# Altium schematic symbol library Resistors.SchLib: 234 symbols (part 2 of 2)
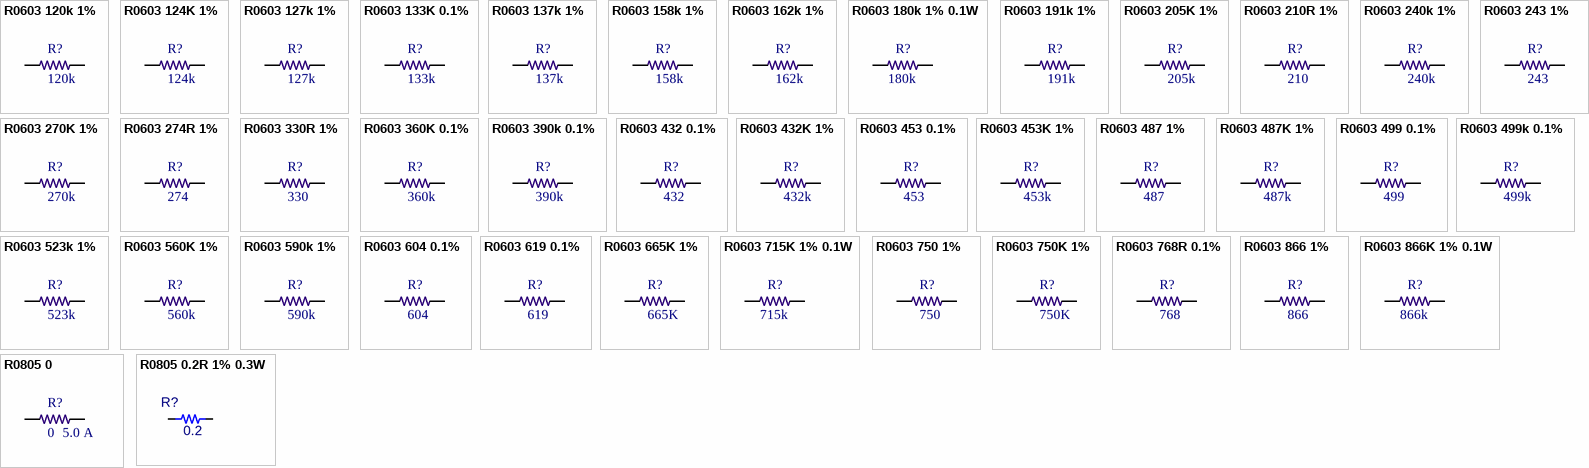
[diagram p6: symbols R0603 120k 1% to R0805 0.2R 1% 0.3W]

## R0603 162k 1%
designator R?  value 162k  (hidden comment: *)
RES SMD 162K OHM 1% 1/10W 0603; Temperature Coefficient: ±100ppm/°C; Supplier 1: Digi-Key; Tolerance: ±1%; Features: Automotive AEC-Q200; Operating Temperature: -55°C ~ 155°C; Supplier Part Number 1: RMCF0603FG162KCT-ND
footprint R0603-IPC
footprint R0603-HIGH-DENSITY (Chip Resistor, 2-Leads, Body 1.60x0.80mm, IPC High Density)
pins: 1, 2

## R0603 180k 1% 0.1W
designator R?  value 180k  (hidden comment: *)
180 kOhms ±1% 0.1W, 1/10W Chip Resistor 0603 (1608 Metric) Automotive AEC-Q200, Moisture Resistant Thick Film; Supplier 1: Digi-Key; Supplier Part Number 1: A129715CT-ND
footprint R0603-HIGH-DENSITY (Chip Resistor, 2-Leads, Body 1.60x0.80mm, IPC High Density)
pins: 1, 2

## R0603 191k 1%
designator R?  value 191k  (hidden comment: *)
RES 191K OHM 1% 1/10W 0603; Supplier 1: Digi-Key; Supplier Part Number 1: RMCF0603FT191KCT-ND
footprint R0603-IPC
footprint R0603-HIGH-DENSITY (Chip Resistor, 2-Leads, Body 1.60x0.80mm, IPC High Density)
pins: 1, 2

## R0603 205K 1%
designator R?  value 205k  (hidden comment: *)
RES SMD 205K OHM 1% 1/10W 0603; Supplier 1: Digi-Key; Supplier Part Number 1: RMCF0603FT205KCT-ND
footprint R0603-IPC
footprint R0603-HIGH-DENSITY (Chip Resistor, 2-Leads, Body 1.60x0.80mm, IPC High Density)
pins: 1, 2

## R0603 210R 1%
designator R?  value 210  (hidden comment: *)
RES 210 OHM 1% 1/10W 0603; Supplier 1: Digi-Key; Supplier Part Number 1: RMCF0603FT210RCT-ND
footprint R0603-IPC
footprint R0603-HIGH-DENSITY (Chip Resistor, 2-Leads, Body 1.60x0.80mm, IPC High Density)
pins: 1, 2

## R0603 240k 1%
designator R?  value 240k  (hidden comment: *)
RES 240K OHM 1% 1/10W 0603; Supplier 1: Digi-Key; Supplier Part Number 1: RMCF0603FT240KCT-ND
footprint R0603-IPC
footprint R0603-HIGH-DENSITY (Chip Resistor, 2-Leads, Body 1.60x0.80mm, IPC High Density)
pins: 1, 2

## R0603 243 1%
designator R?  value 243  (hidden comment: *)
RES SMD 243 OHM 1% 1/10W 0603; Temperature Coefficient: ±100ppm/°C; Tolerance: ±1%; Features: Automotive AEC-Q200; Operating Temperature: -55°C ~ 155°C; Supplier 1: Digi-Key; Supplier Part Number 1: RMCF0603FT243RCT-ND
footprint R0603-IPC
footprint R0603-HIGH-DENSITY (Chip Resistor, 2-Leads, Body 1.60x0.80mm, IPC High Density)
pins: 1, 2

## R0603 270K 1%
designator R?  value 270k  (hidden comment: *)
RES SMD 270K OHM 1% 1/10W 0603; Supplier 1: Digi-Key; Supplier 2: Mouser; Supplier 3: LCSC; Supplier Part Number 1: P270KHCT-ND; Supplier Part Number 2: 667-ERJ-3EKF2703V; Supplier Part Number 3: C403123
footprint R0603-IPC
footprint R0603-HIGH-DENSITY (Chip Resistor, 2-Leads, Body 1.60x0.80mm, IPC High Density)
pins: 1, 2

## R0603 274R 1%
designator R?, comment value 274  (hidden comment: 0603 274R 1%)
RES SMD 274 OHM 1% 1/10W 0603; Supplier 1: Digi-Key; Supplier 2: Mouser; Supplier Part Number 1: 311-274HRCT-ND; Supplier Part Number 2: 603-RC0603FR-07274RL
footprint R0603-IPC
footprint R0603-HIGH-DENSITY (Chip Resistor, 2-Leads, Body 1.60x0.80mm, IPC High Density)
pins: 1, 2

## R0603 330R 1%
designator R?  value 330  (hidden comment: *)
RES 330 OHM 1% 1/10W 0603; Supplier 1: Digi-Key; Supplier Part Number 1: RMCF0603FT330RCT-ND
footprint R0603-IPC
footprint R0603-HIGH-DENSITY (Chip Resistor, 2-Leads, Body 1.60x0.80mm, IPC High Density)
pins: 1, 2

## R0603 360K 0.1%
designator R?  value 360k  (hidden comment: *)
RES SMD 360K OHM 0.1% 1/10W 0603; Supplier 1: Digi-Key; Supplier Part Number 1: YAG4708CT-ND
footprint R0603-IPC
footprint R0603-HIGH-DENSITY (Chip Resistor, 2-Leads, Body 1.60x0.80mm, IPC High Density)
pins: 1, 2

## R0603 390k 0.1%
designator R?  value 390k  (hidden comment: *)
RES SMD 390K OHM 0.1% 1/10W 0603; Supplier 1: Digi-Key; Supplier Part Number 1: YAG4542CT-ND
footprint R0603-IPC
footprint R0603-HIGH-DENSITY (Chip Resistor, 2-Leads, Body 1.60x0.80mm, IPC High Density)
pins: 1, 2

## R0603 432 0.1%
designator R?  value 432  (hidden comment: *)
Chip Resistor, 0603, ??k ohms, 0.1W; Supplier 1: Digi-Key; Supplier Part Number 1: P432DBCT-ND
footprint R0603-IPC
footprint R0603-HIGH-DENSITY (Chip Resistor, 2-Leads, Body 1.60x0.80mm, IPC High Density)
pins: 1, 2

## R0603 432K 1%
designator R?  value 432k  (hidden comment: *)
RES SMD 432K OHM 1% 1/10W 0603; Supplier 1: Digi-Key; Supplier Part Number 1: RMCF0603FT432KCT-ND
footprint R0603-IPC
footprint R0603-HIGH-DENSITY (Chip Resistor, 2-Leads, Body 1.60x0.80mm, IPC High Density)
pins: 1, 2

## R0603 453 0.1%
designator R?  value 453  (hidden comment: *)
RES SMD 453 OHM 0.1% 1/10W 0603; Supplier 1: Digi-Key; Supplier Part Number 1: P453DBCT-ND
footprint R0603-IPC
footprint R0603-HIGH-DENSITY (Chip Resistor, 2-Leads, Body 1.60x0.80mm, IPC High Density)
pins: 1, 2

## R0603 453K 1%
designator R?  value 453k  (hidden comment: *)
RES SMD 453K OHM 1% 1/10W 0603; Supplier 1: Digi-Key; Supplier Part Number 1: RMCF0603FT453KCT-ND
footprint R0603-IPC
footprint R0603-HIGH-DENSITY (Chip Resistor, 2-Leads, Body 1.60x0.80mm, IPC High Density)
pins: 1, 2

## R0603 487 1%
designator R?  value 487  (hidden comment: *)
RES SMD 487 OHM 1% 1/10W 0603; Supplier 1: Digi-Key; Supplier Part Number 1: P487HCT-ND
footprint R0603-IPC
footprint R0603-HIGH-DENSITY (Chip Resistor, 2-Leads, Body 1.60x0.80mm, IPC High Density)
pins: 1, 2

## R0603 487K 1%
designator R?  value 487k  (hidden comment: *)
RES SMD 487K OHM 1% 1/10W 0603; Supplier 1: Digi-Key; Supplier Part Number 1: RMCF0603FT487KCT-ND
footprint R0603-IPC
footprint R0603-HIGH-DENSITY (Chip Resistor, 2-Leads, Body 1.60x0.80mm, IPC High Density)
pins: 1, 2

## R0603 499 0.1%
designator R?  value 499  (hidden comment: *)
RES SMD 499 OHM 0.1% 1/10W 0603; Supplier 1: Digi-Key; Supplier Part Number 1: P499DBCT-ND
footprint R0603-IPC
footprint R0603-HIGH-DENSITY (Chip Resistor, 2-Leads, Body 1.60x0.80mm, IPC High Density)
pins: 1, 2

## R0603 499k 0.1%
designator R?  value 499k  (hidden comment: *)
RES 499K OHM 0.1% 1/10W 0603; Supplier 1: Digi-Key; Supplier Part Number 1: A124756CT-ND
footprint R0603-IPC
footprint R0603-HIGH-DENSITY (Chip Resistor, 2-Leads, Body 1.60x0.80mm, IPC High Density)
pins: 1, 2

## R0603 523k 1%
designator R?  value 523k  (hidden comment: *)
RES 523K OHM 1% 1/10W 0603; Supplier 1: Digi-Key; Supplier Part Number 1: RMCF0603FT523KCT-ND
footprint R0603-IPC
footprint R0603-HIGH-DENSITY (Chip Resistor, 2-Leads, Body 1.60x0.80mm, IPC High Density)
pins: 1, 2

## R0603 560K 1%
designator R?  value 560k  (hidden comment: *)
RES 560K OHM 1% 1/10W 0603; Supplier 1: Digi-Key; Supplier Part Number 1: RMCF0603FT560KCT-ND
footprint R0603-IPC
footprint R0603-HIGH-DENSITY (Chip Resistor, 2-Leads, Body 1.60x0.80mm, IPC High Density)
pins: 1, 2

## R0603 590k 1%
designator R?  value 590k  (hidden comment: *)
RES SMD 590K OHM 1% 1/10W 0603; Supplier 1: Digi-Key; Supplier Part Number 1: RMCF0603FT590KCT-ND
footprint R0603-IPC
footprint R0603-HIGH-DENSITY (Chip Resistor, 2-Leads, Body 1.60x0.80mm, IPC High Density)
pins: 1, 2

## R0603 604 0.1%
designator R?  value 604  (hidden comment: *)
RES SMD 604 OHM 0.1% 1/10W 0603; Supplier 1: Digi-Key; Supplier Part Number 1: P604DBCT-ND
footprint R0603-IPC
footprint R0603-HIGH-DENSITY (Chip Resistor, 2-Leads, Body 1.60x0.80mm, IPC High Density)
pins: 1, 2

## R0603 619 0.1%
designator R?  value 619  (hidden comment: *)
RES SMD 619 OHM 0.1% 1/10W 0603; Supplier 1: Digi-Key; Supplier Part Number 1: P619DBCT-ND
footprint R0603-IPC
footprint R0603-HIGH-DENSITY (Chip Resistor, 2-Leads, Body 1.60x0.80mm, IPC High Density)
pins: 1, 2

## R0603 665K 1%
designator R?  value 665K  (hidden comment: *)
RES SMD 665K OHM 1% 1/10W 0603; Temperature Coefficient: ±100ppm/°C; Tolerance: ±1%; Features: Automotive AEC-Q200; Operating Temperature: -55°C ~ 155°C; Supplier 1: Digi-Key; Supplier Part Number 1: RMCF0603FT665KCT-ND
footprint R0603-IPC
footprint R0603-HIGH-DENSITY (Chip Resistor, 2-Leads, Body 1.60x0.80mm, IPC High Density)
pins: 1, 2

## R0603 715K 1% 0.1W
designator R?  value 715k  (hidden comment: *)
715 kOhms ±1% 0.1W, 1/10W Chip Resistor 0603 (1608 Metric) Automotive AEC-Q200, Moisture Resistant Thick Film; Supplier 1: Digi-Key; Supplier Part Number 1: 2019-RK73H1JTTD7153FCT-ND
footprint R0603-HIGH-DENSITY (Chip Resistor, 2-Leads, Body 1.60x0.80mm, IPC High Density)
pins: 1, 2

## R0603 750 1%
designator R?  value 750  (hidden comment: *)
Chip Resistor, 0603, 750 ohms, 0.1W; Supplier 1: Digi-Key; Supplier Part Number 1: 311-750HRCT-ND
footprint R0603-IPC
footprint R0603-HIGH-DENSITY (Chip Resistor, 2-Leads, Body 1.60x0.80mm, IPC High Density)
footprint R0603-IPC-750R (750R 0603 Resistor)
pins: 1, 2

## R0603 750K 1%
designator R?, comment value 750K  (hidden comment: RC0603FR-07750KL)
RES SMD 750K OHM 1% 1/10W 0603; Temperature Coefficient: ±100ppm/°C; Tolerance: ±1%; Operating Temperature: -55°C ~ 155°C; Supplier 1: Digi-Key; Supplier 2: Mouser; Supplier 3: LCSC; Supplier Part Number 1: 311-750KHRCT-ND; Supplier Part Number 2: 603-RC0603FR-07750KL; Supplier Part Number 3: C137684
footprint R0603-IPC
footprint R0603-HIGH-DENSITY (Chip Resistor, 2-Leads, Body 1.60x0.80mm, IPC High Density)
pins: 1, 2

## R0603 768R 0.1%
designator R?  value 768  (hidden comment: *)
Chip Resistor, 0603, 768R ohms, 0.1W; Supplier 1: Digi-Key; Supplier Part Number 1: P768DBCT-ND
footprint R0603-IPC
footprint R0603-HIGH-DENSITY (Chip Resistor, 2-Leads, Body 1.60x0.80mm, IPC High Density)
pins: 1, 2

## R0603 866 1%
designator R?  value 866  (hidden comment: *)
Chip Resistor, 0603, 866 ohms, 0.1W; Supplier 1: Digi-Key; Supplier Part Number 1: 311-866HRCT-ND
footprint R0603-IPC
footprint R0603-HIGH-DENSITY (Chip Resistor, 2-Leads, Body 1.60x0.80mm, IPC High Density)
pins: 1, 2

## R0603 866K 1% 0.1W
designator R?  value 866k  (hidden comment: *)
866 kOhms ±1% 0.1W, 1/10W Chip Resistor 0603 (1608 Metric) Moisture Resistant Thick Film; Supplier 1: Digi-Key; Supplier Part Number 1: 311-866KHRCT-ND
footprint R0603-HIGH-DENSITY (Chip Resistor, 2-Leads, Body 1.60x0.80mm, IPC High Density)
pins: 1, 2

## R0805 0
designator R?  value 0  Maximum Current: 5.0 A  (hidden comment: *)
RES SMD 0 OHM JUMPER 1/8W 0805; Rated Current: 2.0 A; Supplier 1: Digi-Key; Supplier Part Number 1: 311-0.0ARCT-ND
footprint R0805-IPC
pins: 1, 2

## R0805 0.2R 1% 0.3W
designator R?, comment value 0.2  (hidden comment: RL1220S-R20-F)
Chip Resistor, 0805, ??k ohms, 0.1W; Supplier 1: Digikey; Supplier 2: Mouser; Supplier Part Number 1: RL12S.20FCT-ND; Supplier Part Number 2: 754-RL1220S-R20-F
footprint R0805-IPC
footprint R0805-High-Density (Chip Resistor, 2-Leads, Body 2.00x1.20mm, IPC High Density)
pins: 1, 2

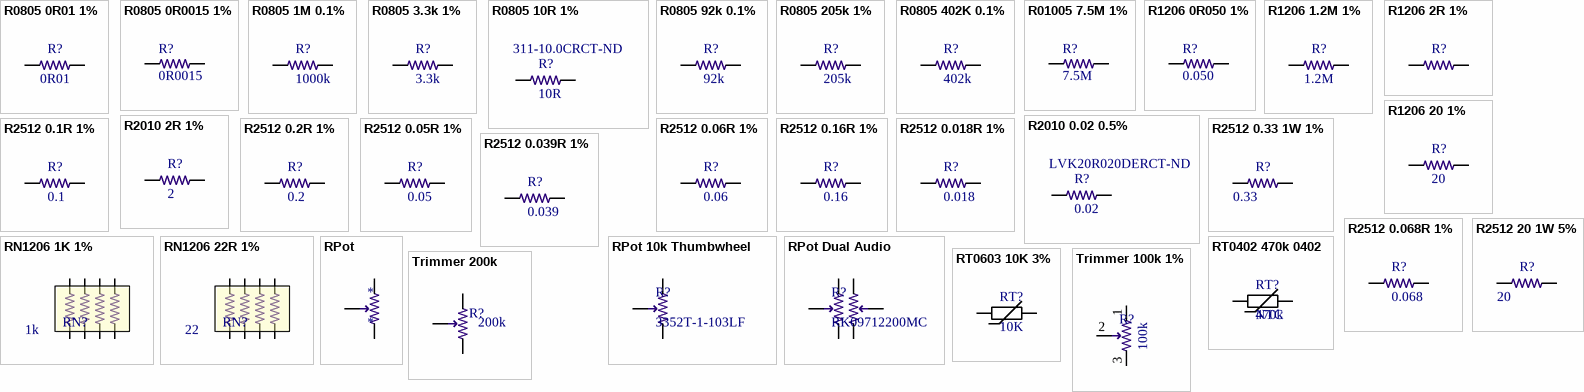
[diagram p5: symbols R0805 0R01 1% to Trimmer 200k]

## R0805 0R01 1%
designator R?  value 0R01  (hidden comment: *)
Chip Resistor, 0805, 0.01 ohms, 0.5 watt, 75 ppm/C, AEC-Q200, -65~170C; Supplier 1: Digi-Key; Supplier Part Number 1: WSLPB-.01CT-ND
footprint R0805-IPC
footprint R0805-High-Density (Chip Resistor, 2-Leads, Body 2.00x1.20mm, IPC High Density)
pins: 1, 2

## R0805 0R0015 1%
designator R?, comment value 0R0015  (hidden comment: CSSH0805FT1L50)
RES SHUNT, 0805, 0.0015 OHM, 1%,; Supplier 1: Digi-Key; Supplier Part Number 1: 738-CSSH0805FT1L50CT-ND
footprint R0805-IPC
footprint R0805-High-Density (Chip Resistor, 2-Leads, Body 2.00x1.20mm, IPC High Density)
pins: 1, 2

## R0805 1M 0.1%
designator R?  value 1000k  (hidden comment: *)
Chip Resistor, 0805, 1M ohms, 0.125W; Supplier 1: Digi-Key; Supplier Part Number 1: P1MDACT-ND
footprint R0805-IPC
footprint R0805-High-Density (Chip Resistor, 2-Leads, Body 2.00x1.20mm, IPC High Density)
pins: 1, 2

## R0805 3.3k 1%
designator R?  value 3.3k  (hidden comment: *)
Chip Resistor, 0805, 3.3k ohms, 0.125W; Supplier 1: Digi-Key; Supplier Part Number 1: 311-3.30KCRCT-ND
footprint R0805-IPC
pins: 1, 2

## R0805 10R 1%
designator R?  value 10R  Supplier Part Number 1: 311-10.0CRCT-ND  (hidden comment: *)
Chip Resistor, 0805, 10R ohms, 0.125W; Supplier 1: Digi-Key
footprint R0805-IPC
pins: 1, 2

## R0805 92k 0.1%
designator R?  value 92k  (hidden comment: *)
Chip Resistor, 0805, 92k ohms, 0.125W; Manufacturer: RT0805BRD0792KL; Supplier 1: Mouser; Supplier Part Number: 603-RT0805BRD0792KL
footprint R0805-IPC
footprint R0805-High-Density (Chip Resistor, 2-Leads, Body 2.00x1.20mm, IPC High Density)
pins: 1, 2

## R0805 205k 1%
designator R?  value 205k  (hidden comment: *)
Chip Resistor, 0805, 205k ohms, 0.125W; Supplier 1: Digi-Key; Supplier Part Number 1: P205KCCT-ND
footprint R0805-IPC
footprint R0805-High-Density (Chip Resistor, 2-Leads, Body 2.00x1.20mm, IPC High Density)
pins: 1, 2

## R0805 402K 0.1%
designator R?  value 402k  (hidden comment: *)
Chip Resistor, 0805, 402k ohms, 0.125W; Supplier 1: Digi-Key; Supplier Part Number 1: P402KDACT-ND
footprint R0805-IPC
footprint R0805-High-Density (Chip Resistor, 2-Leads, Body 2.00x1.20mm, IPC High Density)
pins: 1, 2

## R01005 7.5M 1%
designator R?, comment value 7.5M  (hidden comment: RC0100FR-077M5L)
7.5 MOhms ±1% 0.03W, 1/32W Chip Resistor 01005 (0402 Metric) Moisture Resistant Thick Film; Supplier 1: Digi-Key; Supplier 2: Mouser; Supplier Part Number 1: YAG6419CT-ND; Supplier Part Number 2: 603-RC0100FR-077M5L
footprint R01005-IPC-HIGH-DENSITY (Chip Resistor, 2-Leads, Body 0.40x0.20mm, IPC High Density)
pins: 1, 2

## R1206 0R050 1%
designator R?, comment value 0.050  (hidden comment: CSNL1206FT50L0)
RES 0.05 OHM 1% 1W 1206; Supplier 1: Digi-Key; Supplier Part Number 1: CSNL1206FT50L0CT-ND
footprint R1206-IPC-0R050
pins: 1, 2

## R1206 1.2M 1%
designator R?, comment value 1.2M  (hidden comment: RC1206JR-071M2L)
1.2 MOhms ±5% 0.25W, 1/4W Chip Resistor 1206 (3216 Metric) Moisture Resistant Thick Film; Supplier 1: Digi-Key; Supplier 2: Mouser; Supplier Part Number 1: 311-1.2MERCT-ND; Supplier Part Number 2: 603-RC1206JR-071M2L
footprint R1206-IPC
pins: 1, 2

## R1206 2R 1%
designator R?  (value not drawn)
RES SMD 2 OHM 1% 1/4W 1206; Value: 2; Supplier 1: Digi-Key; Supplier Part Number 1: 541-4179-1-ND
footprint R1206-IPC
pins: 1, 2

## R1206 20 1%
designator R?  value 20  (hidden comment: *)
Chip Resistor, 1206, 20 ohms, 0.5W; Manufacturer: Stackpole Electronics Inc.; Manufacturer Part Number: RNCP1206FTD20R0; Supplier 1: Digi-Key; Supplier Part Number 1: RNCP1206FTD20R0CT-ND
footprint R1206-IPC
pins: 1, 2

## R2010 0.02 0.5%
designator R?  value 0.02  Supplier Part Number 1: LVK20R020DERCT-ND  (hidden comment: *)
Chip Resistor, 2010, 0.02 ohms, 0.75W; Supplier 1: Digi-Key
footprint R2010-IPC (Chip Resistor, 2-Leads, Body 5.00x2.50mm, IPC Medium Density)
pins: 1, 2

## R2010 2R 1%
designator R?  Resistance: 2  (hidden comment: *)
RES SMD 2 OHM 1% 1W 2010; Temperature Coefficient: ±100ppm/°C; Tolerance: ±1%; Power (Watts): 1 W; Features: Automotive AEC-Q200, Pulse Withstanding; Operating Temperature: -55°C ~ 155°C; Package / Case: 2010; Supplier 1: Digi-Key; Supplier Part Number 1: 541-2936-1-ND
footprint R2010-IPC (Chip Resistor, 2-Leads, Body 5.00x2.50mm, IPC Medium Density)
pins: 1, 2

## R2512 0.1R 1%
designator R?  value 0.1  (hidden comment: *)
Chip Resistor, 2512, 0.1 ohms, 3W; Supplier 1: Digi-Key; Supplier Part Number 1: 696-1842-1-ND
footprint R2512-IPC (Chip Resistor, 2-Leads, Body 6.35x3.10mm, IPC Low Density)
pins: 1, 2

## R2512 0.2R 1%
designator R?  value 0.2  (hidden comment: *)
Chip Resistor, 2512, 0.2 ohms, 1W; Supplier 1: Digi-Key; Supplier Part Number 1: 311-0.2TCT-ND
footprint R2512-IPC (Chip Resistor, 2-Leads, Body 6.35x3.10mm, IPC Low Density)
pins: 1, 2

## R2512 0.05R 1%
designator R?  value 0.05  (hidden comment: *)
Chip Resistor, 2512, 0.05 ohms, 3W; Supplier 1: Digi-Key; Supplier Part Number 1: CRA2512-FZ-R050ELFCT-ND
footprint R2512-IPC (Chip Resistor, 2-Leads, Body 6.35x3.10mm, IPC Low Density)
pins: 1, 2

## R2512 0.06R 1%
designator R?  value 0.06  (hidden comment: *)
Chip Resistor, 2512, 0.06 ohms, 1W; Supplier 1: Digi-Key; Supplier Part Number 1: 311-0.06TCT-ND
footprint R2512-IPC (Chip Resistor, 2-Leads, Body 6.35x3.10mm, IPC Low Density)
pins: 1, 2

## R2512 0.16R 1%
designator R?  value 0.16  (hidden comment: *)
Chip Resistor, 2512, 0.16 ohms, 2W; Supplier 1: Digi-Key; Supplier Part Number 1: A109699CT-ND
footprint R2512-IPC (Chip Resistor, 2-Leads, Body 6.35x3.10mm, IPC Low Density)
pins: 1, 2

## R2512 0.018R 1%
designator R?  value 0.018  (hidden comment: *)
Chip Resistor, 2512, 0.018 ohms, 2W; Supplier 1: Digi-Key; Supplier Part Number 1: YAG2166CT-ND
footprint R2512-IPC (Chip Resistor, 2-Leads, Body 6.35x3.10mm, IPC Low Density)
pins: 1, 2

## R2512 0.33 1W 1%
designator R?  value 0.33  (hidden comment: *)
RES 0.33 OHM 1% 1W 2512; Supplier 1: Digi-Key
footprint R2512-IPC (Chip Resistor, 2-Leads, Body 6.35x3.10mm, IPC Low Density)
pins: 1, 2

## R2512 0.039R 1%
designator R?  value 0.039  (hidden comment: *)
Chip Resistor, 2512, 0.039 ohms, 1W; Supplier 1: Digi-Key; Supplier Part Number 1: 311-.039TCT-ND
footprint R2512-IPC (Chip Resistor, 2-Leads, Body 6.35x3.10mm, IPC Low Density)
pins: 1, 2

## R2512 0.068R 1%
designator R?  value 0.068  (hidden comment: *)
Chip Resistor, 2512, 0.068 ohms, 1W; Supplier 1: Digi-Key; Supplier Part Number 1: 311-0.068TCT-ND
footprint R2512-IPC (Chip Resistor, 2-Leads, Body 6.35x3.10mm, IPC Low Density)
pins: 1, 2

## R2512 20 1W 5%
designator R?  value 20  (hidden comment: *)
RES 20 OHM 1% 1W 2512; Supplier 3: LCSC; Supplier Part Number 3: C5151666
footprint R2512-IPC (Chip Resistor, 2-Leads, Body 6.35x3.10mm, IPC Low Density)
pins: 1, 2

## RN1206 1K 1%
designator RN?, comment value 1k  (hidden comment: CAY16-1001F4LF)
1k Ohm ±1% 62.5mW Power Per Element Isolated 4 Resistor Network/Array ±200ppm/°C 1206 (3216 Metric), Convex, Long Side Terminals; Supplier 1: Digi-Key; Supplier 2: Mouser; Supplier Part Number 1: CAY16-1001F4LFCT-ND; Supplier Part Number 2: 652-CAY16-1001F4LF
footprint RN1206 (RESCAXE80P320X160X70-8N)
pins: 1, 2, 3, 4, 5, 6, 7, 8

## RN1206 22R 1%
designator RN?, comment value 22  (hidden comment: YC164-FR-0722RL)
22 Ohm ±1% 62.5mW Power Per Element Isolated 4 Resistor Network/Array ±200ppm/°C 1206 (3216 Metric), Convex, Long Side Terminals; Supplier 1: Digi-Key; Supplier 2: Mouser; Supplier Part Number 1: 13-YC164-FR-0722RLCT-ND; Supplier Part Number 2: 603-YC164-FR-0722RL
footprint RN1206 (RESCAXE80P320X160X70-8N)
pins: 1, 2, 3, 4, 5, 6, 7, 8

## RPot
designator *
Surface Mount Trimmer
footprint POT3.25-2 (Surface Mount Potentiometer)
pins: 1, 2 W, 3

## RPot 10k Thumbwheel
designator R?, comment 3352T-1-103LF
10 kOhms 0.5W, 1/2W Through Hole Thumbwheel Potentiometer Top Adjustment; Supplier 1: Digi-Key; Supplier 2: Mouser; Supplier Part Number 1: 3352T-103LF-ND; Supplier Part Number 2: 652-3352T-1-103LF
footprint TRIM_3352T-1-103LF
pins: 1, 2 W, 3

## RPot Dual Audio
designator R?, comment RK09712200MC
Potentiometers Flat 15mm 10k Dual Audio; Supplier 2: Mouser; Supplier 3: LCSC; Supplier Part Number 1: 688-RK09712200MC; Supplier Part Number 2: C444934; Value: 10K
footprint RK09712200MC (Alps Dual Audio Potentiometer)
pins: 1, 2 W, 3, 4, 5 W, 6

## RT0402 470k 0402
designator RT?, comment NTC  value 470k
NTC Thermistor 470k 0402; B25/B85: 4750K; Supplier 1: Digi-Key; Supplier Part Number 1: P122078CT-ND
footprint R0402-IPC
footprint C0402-HIGH-DENSITY (Chip Capacitor, 2-Leads, Body 1.02x0.51mm, IPC High Density)
pins: 1, 2

## RT0603 10K 3%
designator RT?  value 10K  (hidden comment: *)
NTC THERMISTOR 10K OHM 3% 0603; B25/50: 4250K; R @ 0°C: 35.82K; R @ 50°C: 3.32K; Supplier 1: Digi-Key; Supplier Part Number 1: P13707CT-ND
footprint R0603-IPC
footprint R0603-HIGH-DENSITY (Chip Resistor, 2-Leads, Body 1.60x0.80mm, IPC High Density)
pins: 1, 2

## Trimmer 100k 1%
designator R?  value 100k  (hidden comment: *)
Trimmer, 100k, 1 Turn, Thru-Hole, Cermet, 100ppm/C; Supplier 1: Digi-Key; Supplier Part Number 1: 311-0.0JRCT-ND
footprint CT-6EP (Copal Electronics Trimmer)
pins: 1, 2 W, 3

## Trimmer 200k
designator R?, comment value 200k  (hidden comment: 3214J-1-204E)
200 kOhms 0.25W, 1/4W J Lead Surface Mount Trimmer Potentiometer Cermet 5.0 Turn Side Adjustment; Supplier 1: Digi-Key; Supplier 2: Mouser; Supplier Part Number 1: 3214J-1-204ECT-ND; Supplier Part Number 2: 652-3214J-1-204E
footprint POT4.8-3.5 (Surface Mount Potentiometer)
pins: 1, 2 W, 3